# EAGLE library part STM32WB55RCV6 (library STM32WB55RCV6)
Bluetooth v5.0 and 802.15.4 With Microcontroller Combo module Source: Datasheet <https://www.mouser.com/datasheet/2/389/stm32wb55rc-1588898.pdf>
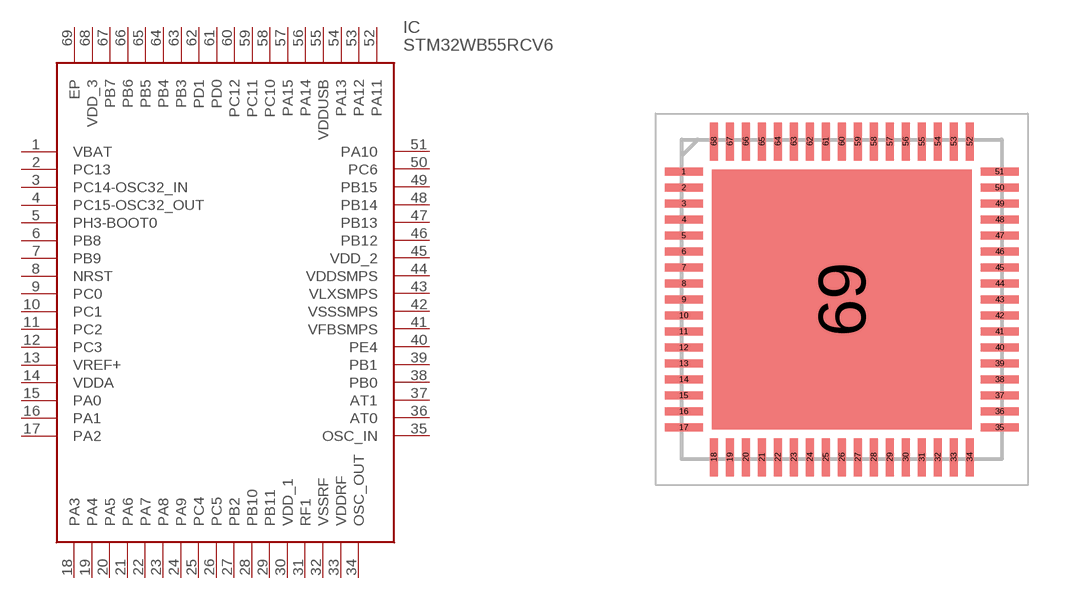
[diagram p0: symbol with the pads of QFN40P800X800X100-69N; footprint QFN40P800X800X100-69N]

Designator prefix IC

## STM32WB55RCV6 (Arrow_Part_Number: STM32WB55RCV6; Arrow_Price-Stock: https://www.arrow.com/en/products/stm32wb55rcv6/stmicroelectronics?region=nac; Description: Bluetooth v5.0 and 802.15.4 With Microcontroller Combo module; Height: 1mm; Manufacturer_Name: STMicroelectronics; Manufacturer_Part_Number: STM32WB55RCV6; Mouser_Part_Number: 511-STM32WB55RCV6; Mouser_Price-Stock: https://www.mouser.co.uk/ProductDetail/STMicroelectronics/STM32WB55RCV6?qs=vLWxofP3U2y%2F21YKkPUpfQ%3D%3D)  [QFN40P800X800X100-69N]
1  VBAT
2  PC13
3  PC14-OSC32_IN
4  PC15-OSC32_OUT
5  PH3-BOOT0
6  PB8
7  PB9
8  NRST
9  PC0
10  PC1
11  PC2
12  PC3
13  VREF+
14  VDDA
15  PA0
16  PA1
17  PA2
18  PA3
19  PA4
20  PA5
21  PA6
22  PA7
23  PA8
24  PA9
25  PC4
26  PC5
27  PB2
28  PB10
29  PB11
30  VDD_1
31  RF1
32  VSSRF
33  VDDRF
34  OSC_OUT
35  OSC_IN
36  AT0
37  AT1
38  PB0
39  PB1
40  PE4
41  VFBSMPS
42  VSSSMPS
43  VLXSMPS
44  VDDSMPS
45  VDD_2
46  PB12
47  PB13
48  PB14
49  PB15
50  PC6
51  PA10
52  PA11
53  PA12
54  PA13
55  VDDUSB
56  PA14
57  PA15
58  PC10
59  PC11
60  PC12
61  PD0
62  PD1
63  PB3
64  PB4
65  PB5
66  PB6
67  PB7
68  VDD_3
69  EP

## Footprint QFN40P800X800X100-69N (pad centres in mm)
VFQFPN68
smd 0.95 x 0.2: 1 -3.95,3.2; 2 -3.95,2.8; 3 -3.95,2.4; 4 -3.95,2; 5 -3.95,1.6; 6 -3.95,1.2; 7 -3.95,0.8; 8 -3.95,0.4; 9 -3.95,0; 10 -3.95,-0.4; 11 -3.95,-0.8; 12 -3.95,-1.2; 13 -3.95,-1.6; 14 -3.95,-2; 15 -3.95,-2.4; 16 -3.95,-2.8; 17 -3.95,-3.2; 35 3.95,-3.2; 36 3.95,-2.8; 37 3.95,-2.4; 38 3.95,-2; 39 3.95,-1.6; 40 3.95,-1.2; 41 3.95,-0.8; 42 3.95,-0.4; 43 3.95,0; 44 3.95,0.4; 45 3.95,0.8; 46 3.95,1.2; 47 3.95,1.6; 48 3.95,2; 49 3.95,2.4; 50 3.95,2.8; 51 3.95,3.2
smd 0.2 x 0.95: 18 -3.2,-3.95; 19 -2.8,-3.95; 20 -2.4,-3.95; 21 -2,-3.95; 22 -1.6,-3.95; 23 -1.2,-3.95; 24 -0.8,-3.95; 25 -0.4,-3.95; 26 0,-3.95; 27 0.4,-3.95; 28 0.8,-3.95; 29 1.2,-3.95; 30 1.6,-3.95; 31 2,-3.95; 32 2.4,-3.95; 33 2.8,-3.95; 34 3.2,-3.95; 52 3.2,3.95; 53 2.8,3.95; 54 2.4,3.95; 55 2,3.95; 56 1.6,3.95; 57 1.2,3.95; 58 0.8,3.95; 59 0.4,3.95; 60 0,3.95; 61 -0.4,3.95; 62 -0.8,3.95; 63 -1.2,3.95; 64 -1.6,3.95; 65 -2,3.95; 66 -2.4,3.95; 67 -2.8,3.95; 68 -3.2,3.95
smd 6.5 x 6.5: 69 0,0